# Altium schematic symbol library SCH - AMP AUDIO - ANALOG SSM2380CBZ-REEL.SchLib: 1 symbol
Pins are listed as number, name and electrical type; pins without a type are passive.

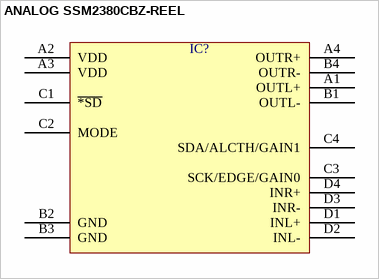
[diagram p0: symbol ANALOG SSM2380CBZ-REEL]

## ANALOG SSM2380CBZ-REEL
designator IC?  (value not drawn)
pins: A1 OUTL+, A2 VDD, A3 VDD, A4 OUTR+, B1 OUTL-, B2 GND, B3 GND, B4 OUTR-, C1 ~{*SD}, C2 MODE, C3 SCK/EDGE/GAIN0, C4 SDA/ALCTH/GAIN1, D1 INL+, D2 INL-, D3 INR-, D4 INR+